# EAGLE library part MCP3008-I_SL (library MCP3008-I_SL)
10-bit ADC, 8-channel, SPI Microchip MCP3008-I/SL, 10 bit Serial ADC, Differential Input, 16-Pin SOIC Source: Datasheet <https://datasheet.datasheetarchive.com/originals/distributors/Datasheets-DGA17/1031059.pdf>
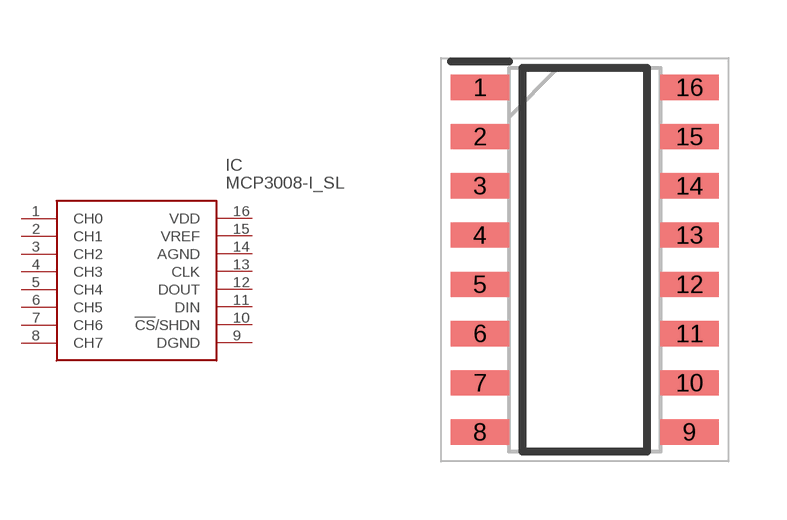
[diagram p0: symbol with the pads of SOIC127P600X175-16N; footprint SOIC127P600X175-16N]

Designator prefix IC

## MCP3008-I_SL (Arrow_Part_Number: MCP3008-I/SL; Arrow_Price-Stock: https://www.arrow.com/en/products/mcp3008-isl/microchip-technology?utm_currency=USD&region=nac; Description: 10-bit ADC, 8-channel, SPI Microchip MCP3008-I/SL, 10 bit Serial ADC, Differential Input, 16-Pin SOIC; Height: 1.75mm; Manufacturer_Name: Microchip; Manufacturer_Part_Number: MCP3008-I/SL; Mouser_Part_Number: 579-MCP3008-I/SL; Mouser_Price-Stock: https://www.mouser.co.uk/ProductDetail/Microchip-Technology/MCP3008-I-SL?qs=BYQkrObauiuZK6Atf%2FfReA%3D%3D)  [SOIC127P600X175-16N]
1  CH0
2  CH1
3  CH2
4  CH3
5  CH4
6  CH5
7  CH6
8  CH7
9  DGND
10  !CS!/SHDN
11  DIN
12  DOUT
13  CLK
14  AGND
15  VREF
16  VDD

## Footprint SOIC127P600X175-16N (pad centres in mm)
16-lead plastic small outline(sl)
smd 1.5 x 0.65: 1 -2.7,4.445; 2 -2.7,3.175; 3 -2.7,1.905; 4 -2.7,0.635; 5 -2.7,-0.635; 6 -2.7,-1.905; 7 -2.7,-3.175; 8 -2.7,-4.445; 9 2.7,-4.445; 10 2.7,-3.175; 11 2.7,-1.905; 12 2.7,-0.635; 13 2.7,0.635; 14 2.7,1.905; 15 2.7,3.175; 16 2.7,4.445